# Altium footprint library WirelessStrainGauge.PcbLib: 6 footprints
Each footprint in its own frame and in the unit in brackets; x right, y up, seen from the top. Pads: shape width x height; smd on the part's side, far side on the other; paste and mask are expansions set on the pad; w line width, h text height; cw(c..) or ccw(c..) is an arc to the next point about the centre after c.
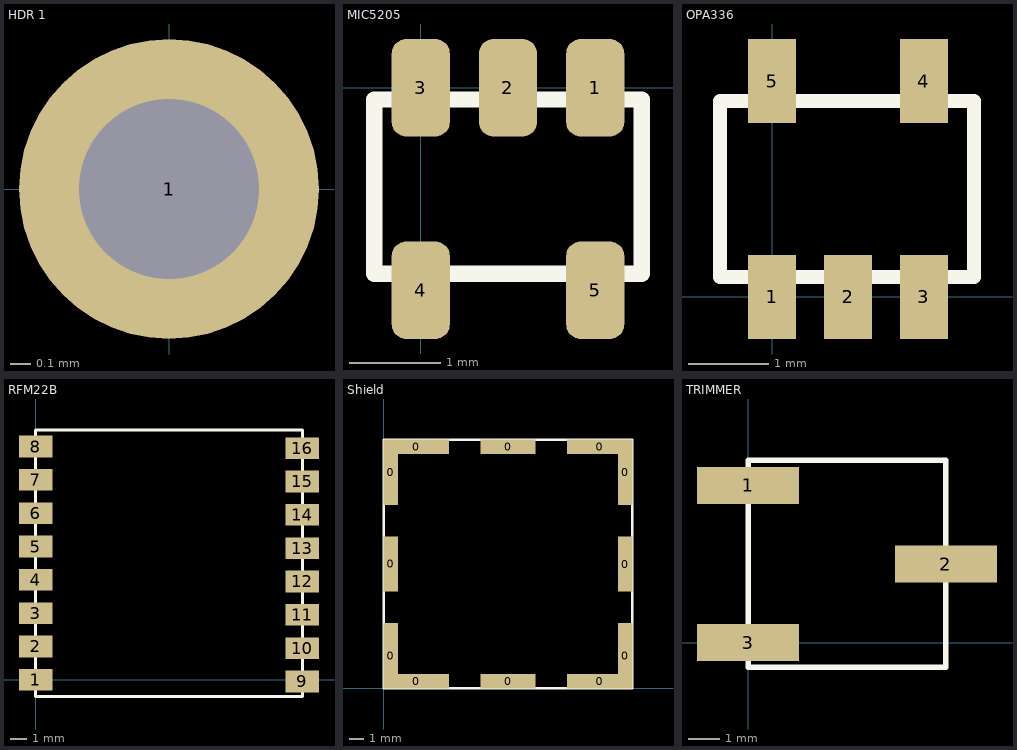
[diagram p0: the footprints below, top view; thin cyan lines are the x and y axes]

## HDR 1 [mm] "Header for ANT"
pads (1):
  round 1.5 hole 0.9: 1(0,0)

## MIC5205 [mil] "MIC5205 3.3V Voltage Regulator"
pads (5):
  rrect50% 25x42 smd: 1(75,0) 2(37.5,0) 3(0,0) 4(0,-87) 5(75,-87)
Top Overlay:
  lines w7: -20,-80 95,-80 95,-5 -20,-5 -20,-80
3D body: height 39.37, standoff 0, extent -23.5,-83.5 98.5,-1.5

## OPA336 [mm] "Texas Instruments Operational Amplifier"
pads (5):
  rect 0.6x1.05 smd: 1(0,0) 2(0.95,0) 3(1.9,0) 4(1.9,2.7) 5(0,2.7)
Top Overlay:
  lines w0.178: -0.65,0.25 -0.65,2.45 2.525,2.45 2.525,0.25 -0.65,0.25
3D body: height 1.45, standoff 0, extent -0.75,0.15 2.625,2.55

## RFM22B [mm] "RFM22B Transceiver"
pads (16):
  rect 2x1.3 smd: 1(0,0) 2(0,2) 3(0,4) 4(0,6) 5(0,8) 6(0,10) 7(0,12) 8(0,14) 9(16,-0.1) 10(16,1.9) 11(16,3.9) 12(16,5.9) 13(16,7.9) 14(16,9.9) 15(16,11.9) 16(16,13.9)
Top Overlay:
  lines w0.178: 0,-1 0,15 16,15 16,-1 0,-1
3D body: height 1, standoff 0, extent -0.089,-1.089 16.089,15.089

## Shield [mm] "Laird Technologies BMI-S-202-F"
pads (12):
  rect 1x3.8 smd: 0(0.5,8.65) 0(16.8,8.65)
  rect 1x4.55 smd: 0(0.5,2.275) 0(0.5,15.025) 0(16.8,2.275) 0(16.8,15.025)
  rect 4.55x1 smd: 0(2.275,0.5) 0(2.275,16.8) 0(15.025,0.5) 0(15.025,16.8)
  rect 3.8x1 smd: 0(8.65,0.5) 0(8.65,16.8)
Top Overlay:
  lines w0.178: 0,0 17.3,0 17.3,17.3 0,17.3 0,0

## TRIMMER [mm] "Bourns 3269P Multi-turn Trimmer"
pads (3):
  rect 3.3x1.19 smd: 1(0,5.08) 2(6.4,2.54) 3(0,0)
Top Overlay:
  lines w0.178: 0,-0.8 6.4,-0.8 6.4,5.9 0,5.9 0,-0.8
3D body: height 5.21, standoff 0, extent -0.089,-0.889 6.489,5.989